# EAGLE library part BREAKOUT_HEADER (library custom_Ben)
Breakout Header
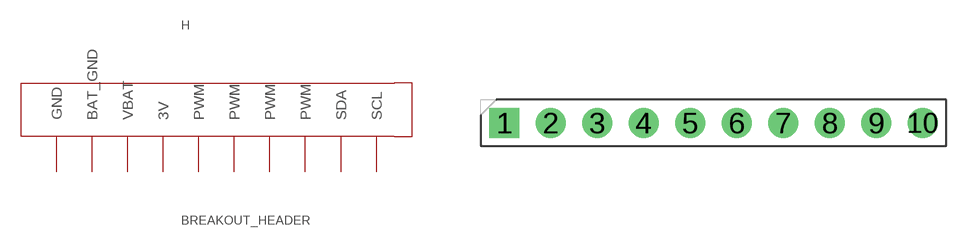
[diagram p1: symbol with the pads of BREAKOUT_HEADER; footprint BREAKOUT_HEADER]

Designator prefix H

## BREAKOUT_HEADER (CREATOR: Ben Phan; DIST: NA; DISTPN: NA)  [BREAKOUT_HEADER]
1  3V
2  BAT_GND
3  GND
4  PWM
5  PWM
6  PWM
7  PWM
8  SCL
9  SDA
10  VBAT

## Footprint BREAKOUT_HEADER (pad centres in mm)
Header, Vertical, 2.54 mm pitch; 0.635 mm lead width, 10 pins, 1 row, 10 pins per row, 25.40 mm L X 2.54 mm W X 8.38 mm H body PCB Libraries Packages
drill 1.1 pad 1.65 square: 1 0,0
drill 1.1 pad 1.65: 2 2.54,0; 3 5.08,0; 4 7.62,0; 5 10.16,0; 6 12.7,0; 7 15.24,0; 8 17.78,0; 9 20.32,0; 10 22.86,0